# EAGLE library part PCF8563 (library PCF8563-TSSOP8)
Check availability <https://pricing.snapeda.com/parts/PCF8563/NXP%20USA/view-part?ref=eda>
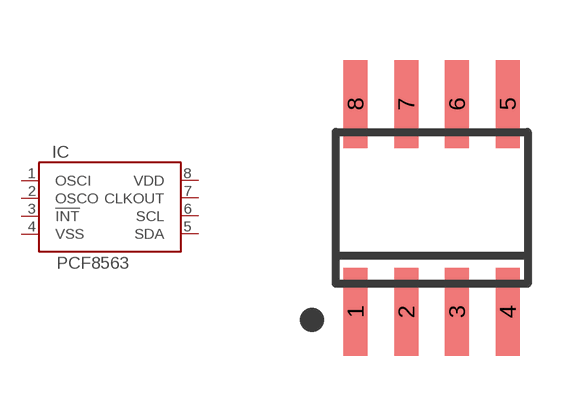
[diagram p0: symbol with the pads of SO8; footprint SO8]

Designator prefix IC

## PCF8563T (AVAILABILITY: In Stock; CHECK_PRICES: https://www.snapeda.com/parts/PCF8563/NXP+Semiconductors/view-part/?ref=eda; DESCRIPTION: Real Time Clock (RTC) IC Clock/Calendar - I²C, 2-Wire Serial 8-TSSOP, 8-MSOP (0.118, 3.00mm Width); MF: NXP USA; MP: PCF8563; PACKAGE: Package; PRICE: None; SNAPEDA_LINK: https://www.snapeda.com/parts/PCF8563/NXP+Semiconductors/view-part/?ref=snap)  [SO8]
1  OSCI
2  OSCO
3  !INT!
4  VSS
5  SDA
6  SCL
7  CLKOUT
8  VDD

## Footprint SO8 (pad centres in mm)
smd 0.6 x 2.2: 1 -1.905,-2.6; 2 -0.635,-2.6; 3 0.635,-2.6; 4 1.905,-2.6; 5 1.905,2.6; 6 0.635,2.6; 7 -0.635,2.6; 8 -1.905,2.6